# Altium footprint library CLAP.PcbLib: 265 footprints (part 17 of 17)
Each footprint in its own frame and in the unit in brackets; x right, y up, seen from the top. Pads: shape width x height; smd on the part's side, far side on the other; paste and mask are expansions set on the pad; w line width, h text height; cw(c..) or ccw(c..) is an arc to the next point about the centre after c.
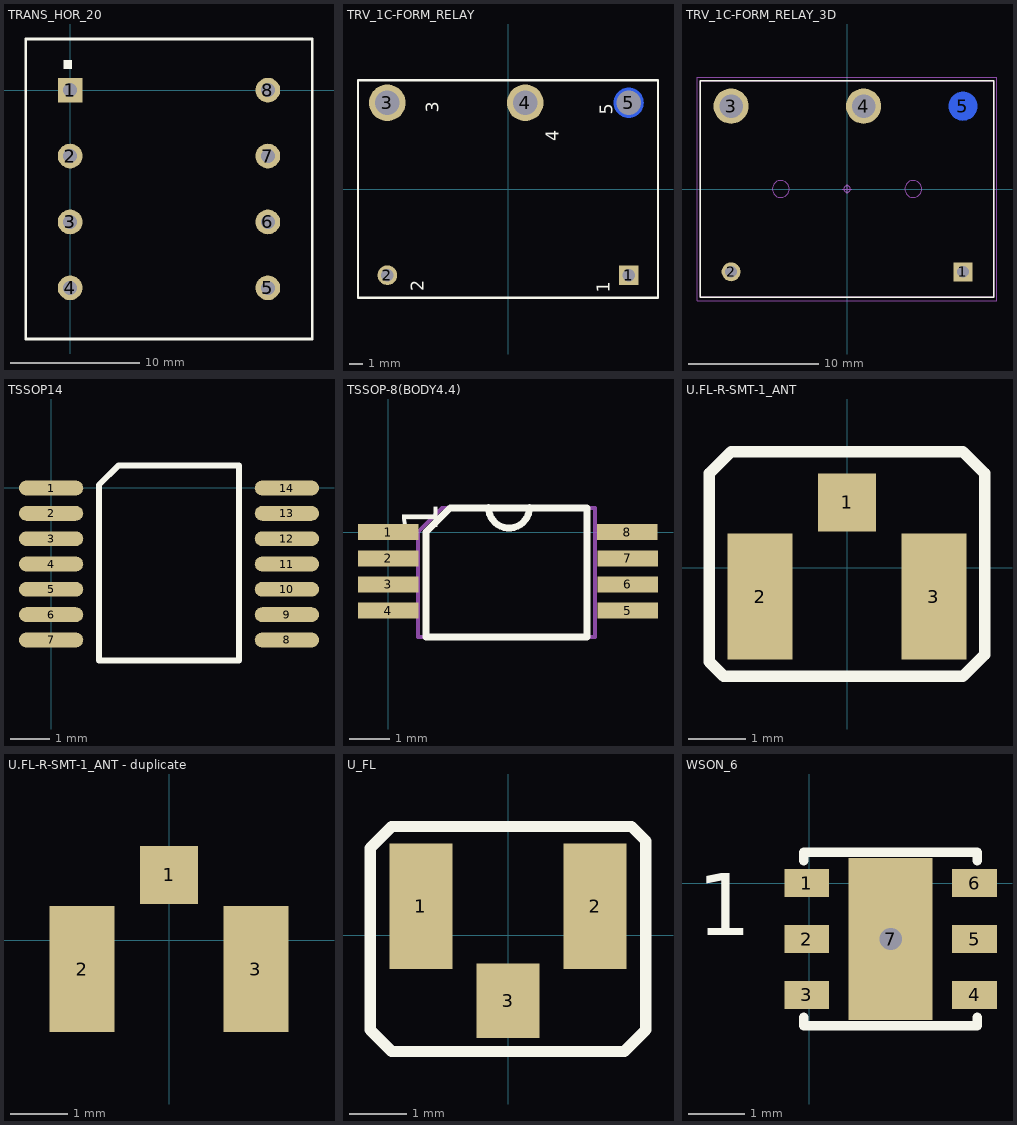
[diagram p16: the footprints below, top view; thin cyan lines are the x and y axes]

## TRANS_HOR_20 [mm]
pads (8):
  rect 1.9x1.9 hole 1.1: 1(0,0)
  round 1.9 hole 1.1: 2(0,-5.08) 3(0,-10.16) 4(0,-15.24) 5(15.24,-15.24) 6(15.24,-10.16) 7(15.24,-5.08) 8(15.24,0)
Top Overlay:
  region: 0.139,2.298 -0.496,2.298 -0.496,1.663 0.139,1.663
  lines w0.2: -3.429,-19.177 18.669,-19.177 18.669,3.937 -3.429,3.937 -3.429,-19.177

## TRV_1C-FORM_RELAY [mm]
height 11.4
pads (5):
  rect 1.45x1.45 hole 0.9: 1(8.89,-6.35)
  round 1.45 hole 0.9: 2(-8.89,-6.35)
  round 2.7 hole 1.8: 3(-8.89,6.35) 4(1.27,6.35)
  round 2.2 on Bottom hole 1.8 unplated: 5(8.89,6.35)
Top Overlay:
  lines w0.17: -11.049,-8.001 -11.049,8.001 11.049,8.001 11.049,-8.001 -11.049,-8.001
  text "2" at -6.2,-7.526 h0.94
  text "3" at -5.093,5.624 h0.94
  text "4" at 3.757,3.524 h0.94
  text "1" at 7.5,-7.626 h0.94
  text "5" at 7.707,5.474 h0.94
Mechanical 1:
  lines w0.1: -11.049,-8.001 -11.049,8.001 11.049,8.001 11.049,-8.001 -11.049,-8.001

## TRV_1C-FORM_RELAY_3D [mm] "Capacitor, Radial (Molded); 10.16 mm C X 1.10 mm W 22.50 mm L X 16.60 mm T X 11.60 mm H body"
height 11.6
pads (5):
  rect 1.45x1.45 hole 0.9 paste-2.25: 1(8.89,-6.35)
  round 1.45 hole 0.9 paste-2.25: 2(-8.89,-6.35)
  round 2.7 hole 1.8 mask+0.1: 3(-8.89,6.35) 4(1.27,6.35)
  round 2.2 smd far side mask+0.1: 5(8.89,6.35)
Top Overlay:
  lines w0.12: -11.25,-8.3 -11.25,8.3 11.25,8.3 11.25,-8.3 -11.25,-8.3
Mechanical 11:
  lines w0.12: -11.25,-8.3 -11.25,8.3 11.25,8.3 11.25,-8.3 -11.25,-8.3
Mechanical 12:
  circle w0.025: c-5.08,0 r0.65
  circle w0.025: c5.08,0 r0.65
  lines w0.025: -11.25,-8.3 -11.25,8.3 11.25,8.3 11.25,-8.3 -11.25,-8.3
Mechanical 15:
  circle w0.05: c0,0 r0.25
  lines w0.05: -0.35,0 0.35,0 ; 0,-0.35 0,0.35 ; -11.5,-8.55 11.5,-8.55 11.5,8.55 -11.5,8.55 -11.5,-8.55
Mechanical 16:
  text ".Designator" at 0,0 h1.2
3D body: height 11.2, standoff 0.1, extent -11.1,-8.2 11.1,8.2

## TSSOP14 [mm]
height 1.2
pads (14):
  oval 1.65x0.38 smd paste-25.4: 1(0,-0.005) 2(0,-0.655) 3(0,-1.305) 4(0,-1.955) 5(0,-2.605) 6(0,-3.255) 7(0,-3.905) 8(6.05,-3.905) 9(6.05,-3.255) 10(6.05,-2.605) 11(6.05,-1.955) 12(6.05,-1.305) 13(6.05,-0.655) 14(6.05,-0.005)
Top Overlay:
  lines w0.15: 1.225,-4.43 4.825,-4.43 4.825,0.57 1.725,0.57 1.225,0.07 1.225,-4.43
Top Paste:
  drawing of 14 lines, arcs and shapes, not listed
Mechanical 1:
  lines w0.1: 1.225,-4.43 4.825,-4.43 4.825,0.57 1.725,0.57 1.225,0.07 1.225,-4.43
3D body "TSSOP-14_4.4x5mm_P0.65mm.step": height 1, standoff 0, extent -0.2,-4.45 6.2,0.55

## TSSOP-8(BODY4.4) [mm]
height 0.033
pads (8):
  rect 1.5x0.4 smd: 1(0,0) 2(0,-0.65) 3(0,-1.3) 4(0,-1.95) 5(5.95,-1.95) 6(5.95,-1.3) 7(5.95,-0.65) 8(5.94,0)
Top Overlay:
  lines w0.17: 2.492,0.61 ccw(c3,0.61) 3.508,0.61 ; 0.94,-2.6 4.94,-2.6 4.94,0.6 1.54,0.6 0.94,0 0.94,-2.6
  text "1" at 1.225,-0.025 h0.87
Mechanical 1:
  lines w0.1: 2.492,0.61 ccw(c3,0.61) 3.508,0.61 ; 0.74,-2.6 5.14,-2.6 5.14,0.6 1.34,0.6 0.74,0 0.74,-2.6
  text "1" at -0.515,-0.025 h0.87
3D body "TSSOP-8_4.4x3mm_P0.65mm.step": height 1.1, standoff 0, extent -0.2,-2.5 6.2,0.5

## U.FL-R-SMT-1_ANT [mil]
pads (3):
  rect 40x40 smd: 1(0,45)
  rect 45x87 smd: 2(-60,-20) 3(60,-20)
Top Overlay:
  lines w7.87: -95,-65 -95,65 -80,80 80,80 95,65 95,-60 80,-75 -85,-75 -95,-65
3D body "User Library-UFL-R-SMD.STEP": height 49.21, standoff 0, extent -66.93,-80.71 66.92,41.34

## U.FL-R-SMT-1_ANT - duplicate [mil]
pads (3):
  rect 40x40 smd: 1(0,45)
  rect 45x87 smd: 2(-60,-20) 3(60,-20)
3D body "User Library-UFL-R-SMD.STEP": height 49.21, standoff 0, extent -66.94,-80.71 66.92,41.34

## U_FL [mm]
pads (3):
  rect 1.1x2.2 smd: 1(-1.524,0.508) 2(1.524,0.508)
  rect 1.1x1.3 smd: 3(0,-1.143)
Top Overlay:
  lines w0.2: -2.413,-1.651 -2.032,-2.032 2.032,-2.032 2.413,-1.651 2.413,1.651 2.159,1.905 -2.032,1.905 -2.413,1.524 -2.413,-1.651
3D body "User Library-UFL-R-SMD.STEP": height 1.25, standoff 0, extent -1.7,-1.05 1.7,2.05

## WSON_6 [mm]
pads (7):
  rect 0.8x0.5 smd: 1(-0.05,0) 2(-0.05,-1) 3(-0.05,-2) 4(2.95,-2) 5(2.95,-1) 6(2.95,0)
  rect 1.5x2.9 / inner rect 0x0 / far side round 1.2 hole 0.4: 7(1.45,-1)
Top Overlay:
  lines w0.17: -0.1,-2.4 -0.1,-2.55 3,-2.55 3,-2.4 ; -0.1,0.4 -0.1,0.55 3,0.55 3,0.4
  text "1" at -2.01,-0.93 h1.11